# Altium footprint library Header.PcbLib: 45 footprints (part 1 of 3)
Each footprint in its own frame and in the unit in brackets; x right, y up, seen from the top. Pads: shape width x height; smd on the part's side, far side on the other; paste and mask are expansions set on the pad; w line width, h text height; cw(c..) or ccw(c..) is an arc to the next point about the centre after c.
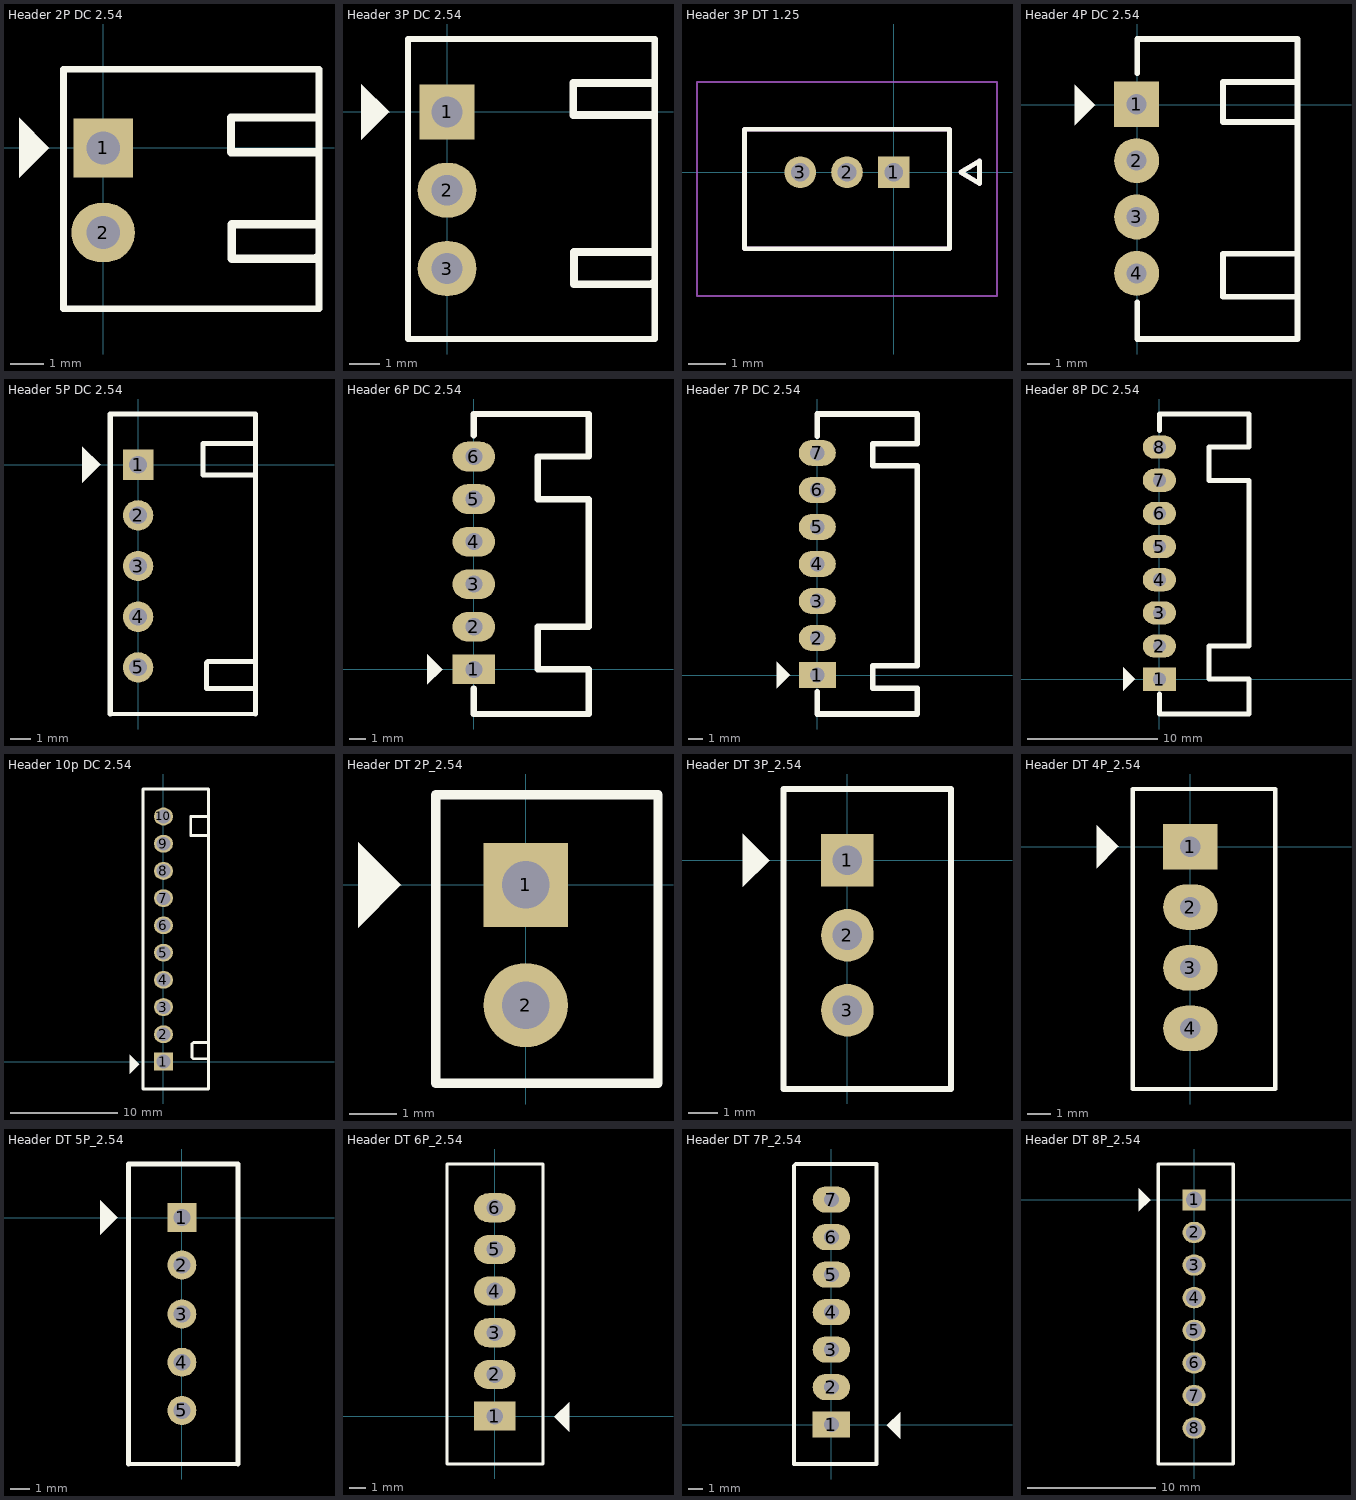
[diagram p0: the footprints below, top view; thin cyan lines are the x and y axes]

## Header 2P DC 2.54 [mil]
pads (2):
  rect 70x70 hole 39.37 unplated: 1(0,0)
  oval 75x70 hole 39.37 unplated: 2(0,-100)
Top Overlay:
  region: -99.5,35.5 -99.5,-35.5 -64.5,-0.5 -63.5,-0.5
  lines w7.87: -47,-190 255,-190 255,93 -47,93 -47,-190
  lines w10: 151,34 cw(c152,34) 152,35 ; 251,36 151,36 151,-5 253,-5 ; 253,-131 cw(c253,-130) 252,-130 cw(c251,-130) 251,-131 152,-131 152,-90 254,-90
3D body "header 2 cong.stp": height 236.7, standoff 0.48, extent -50,-189.96 250,89.96

## Header 3P DC 2.54 [mil]
pads (3):
  rect 70x70 hole 39.37 unplated: 1(0,0)
  oval 75x70 hole 39.37 unplated: 2(0,-100) 3(0,-200)
Top Overlay:
  region: -109.5,35.5 -109.5,-35.5 -74.5,-0.5 -73.5,-0.5
  lines w7.87: -50,-290 265,-290 265,93 -50,93 -50,-290
  lines w10: 161,35 cw(c162,35) 162,36 ; 261,37 161,37 161,-4 263,-4 ; 263,-220 cw(c263,-219) 262,-219 cw(c261,-219) 261,-220 162,-220 162,-179 264,-179

## Header 3P DT 1.25 [mm]
height 4.2
pads (3):
  rect 0.85x0.85 / inner round 0.85 / far side rect 0.85x0.85 hole 0.5 mask+0.076: 1(0,0)
  round 0.85 hole 0.5 mask+0.076: 2(-1.25,0) 3(-2.5,0)
Top Overlay:
  lines w0.127: -4,-2.05 1.5,-2.05 1.5,1.15 -4,1.15 -4,-2.05 ; 1.8,0 2.3,-0.3 2.3,0.3 1.8,0
Mechanical 13:
  lines w0.127: -4,-2.05 1.5,-2.05 1.5,1.15 -4,1.15 -4,-2.05 ; 1.8,0 2.3,-0.3 2.3,0.3 1.8,0
Mechanical 15:
  lines w0.05: -5.27,-3.32 2.77,-3.32 2.77,2.42 -5.27,2.42 -5.27,-3.32

## Header 4P DC 2.54 [mil]
pads (4):
  rect 78.74x78.74 hole 35: 1(-1,1)
  round 78.74 hole 35: 2(-1,-97.42) 3(-1,-195.85) 4(-1,-294.28)
Top Overlay:
  region: -109.5,35.5 -109.5,-35.5 -74.5,-0.5 -73.5,-0.5
  lines w10: 0,-345 0,-409 280,-409 280,115 0,115 0,55 ; 275,40 150,40 150,-30 280,-30 ; 280,-335 150,-335 150,-260 280,-260
3D body "Header X2.54 4P.stp": height 290.5, standoff 0.5, extent 5,-412.5 277.84,122.5

## Header 5P DC 2.54 [mil]
pads (5):
  rect 60x60 hole 35: 1(0,0)
  round 60 hole 35: 2(0,-100) 3(0,-200) 4(0,-300) 5(0,-400)
Top Overlay:
  region: -110,35.5 -110,-35.5 -75,-0.5 -74,-0.5
  lines w7.87: -55,-492 232,-492
  lines w10: -55,-492 -55,100 232,100 232,-492 ; 231,-388 138,-388 135,-391 135,-442 232,-442 ; 231,-20 128,-20 128,42 232,42

## Header 6P DC 2.54 [mil]
pads (6):
  rect 100x70 hole 40: 1(0,0)
  oval 100x70 hole 40: 2(0,100) 3(0,200) 4(0,300) 5(0,400) 6(0,500)
Top Overlay:
  region: -109.5,35.5 -109.5,-35.5 -74.5,-0.5 -73.5,-0.5
  lines w15: 0,-45.04 0,-105.04 270,-105.04 270,0 150,0 150,100 270,100 270,400 150,400 150,500 270,500 270,600 0,600 0,550
3D body "Header X2.54 6P.stp": height 226.88, standoff 0.5, extent -6.95,-110.25 278.05,604.76

## Header 7P DC 2.54 [mil]
pads (7):
  rect 100x70 hole 40: 1(0,0.04)
  oval 100x70 hole 40: 2(0,100.04) 3(0,200.04) 4(0,300.04) 5(0,400.04) 6(0,500.04) 7(0,600.04)
Top Overlay:
  region: -109.5,35.5 -109.5,-35.5 -74.5,-0.5 -73.5,-0.5
  lines w15: 0,-45 0,-105 270,-105 270,-35 150,-35 150,25 270,25 270,565 150,565 150,625 270,625 270,705 0,705 0,645
3D body "header 7.stp": height 236.72, standoff 0.5, extent -5,-93.7 270.59,693.7

## Header 8P DC 2.54 [mil]
pads (8):
  rect 100x70 hole 40: 1(0,0)
  oval 100x70 hole 40: 2(0,100) 3(0,200) 4(0,300) 5(0,400) 6(0,500) 7(0,600) 8(0,700)
Top Overlay:
  region: -109.5,35.5 -109.5,-35.5 -74.5,-0.5 -73.5,-0.5
  lines w15: 0,-45.04 0,-105.04 270,-105.04 270,0 150,0 150,100 270,100 270,600 150,600 150,700 270,700 270,800 0,800 0,750

## Header 10p DC 2.54 [mil]
pads (10):
  rect 70x65 hole 50: 1(0,0)
  oval 70x65 hole 50: 2(0,100) 3(0,200) 4(0,300) 5(0,400) 6(0,500) 7(0,600) 8(0,700) 9(0,800) 10(0,900)
Top Overlay:
  region: -124.5,25.5 -124.5,-45.5 -89.5,-10.5 -88.5,-10.5
  lines w10: 165,10 110,10 105,15 105,65 110,70 165,70 ; 165,830 100,830 100,900 165,900 ; -75,-101 -75,1001 165,1001 165,-101 -75,-101

## Header DT 2P_2.54 [mil]
pads (2):
  rect 70x70 hole 39.37 unplated: 1(0,0)
  round 70 hole 39.37 unplated: 2(0,-100)
Top Overlay:
  region: -139.5,35.5 -139.5,-35.5 -104.5,-0.5 -103.5,-0.5
  lines w7.87: -75,-165 110,-165 110,75 -75,75 -75,-165
3D body "Con 2.stp.step": height 236.82, standoff -133.26, extent -70,-160.14 107.16,72.14

## Header DT 3P_2.54 [mil]
pads (3):
  rect 70x70 hole 39.37 unplated: 1(0,0)
  round 70 hole 39.37 unplated: 2(0,-100) 3(0,-200)
Top Overlay:
  region: -139.5,35.5 -139.5,-35.5 -104.5,-0.5 -103.5,-0.5
  lines w7.87: -85,-305 -85,95 138.31,95 138.31,-305 -85,-305
3D body "SW3dPS-jst-b3b-xh-a.STEP": height 275.59, standoff -133.86, extent -81.38,-299.88 145,89.88

## Header DT 4P_2.54 [mil]
pads (4):
  rect 90x75 hole 34: 1(0,0)
  oval 90x75 hole 34: 2(0,-100) 3(0,-200) 4(0,-300)
Top Overlay:
  region: -154.5,35.5 -154.5,-35.5 -119.5,-0.5 -118.5,-0.5
  lines w7: -95,-400 -95,95 140,95 140,-400 0,-400 -95,-400
3D body "User Library-HEADER,JST,BxB-XH-A.STEP": height 275.59, standoff -133.86, extent -90,-398.19 136.38,90

## Header DT 5P_2.54 [mil]
pads (5):
  rect 60x60 hole 35: 1(0,0)
  round 60 hole 35: 2(0,-98.42) 3(0,-200) 4(0,-300) 5(0,-400)
Top Overlay:
  region: -169.5,35.5 -169.5,-35.5 -134.5,-0.5 -133.5,-0.5
  lines w7.87: -111,-511 116,-511
  lines w10: -111,-511 -111,111 116,111 116,-511
3D body "Header 5P Thang.stp": height 570, standoff -109, extent -106.5,-515 120,105

## Header DT 6P_2.54 [mil] "Header 6P X2.54 Duc Thang"
pads (6):
  rect 100x70 hole 40: 1(0,0)
  oval 100x70 hole 40: 2(0,100) 3(0,200) 4(0,300) 5(0,400) 6(0,500)
Top Overlay:
  region: 178,-38 178,33 143,-2 142,-2
  lines w7: -115,-115 115,-115 115,605 -115,605 -115,-115
3D body "31502.stp": height 549.5, standoff -129.5, extent -114.5,-115 112,605

## Header DT 7P_2.54 [mil]
pads (7):
  rect 100x70 hole 40: 1(0,0)
  oval 100x70 hole 40: 2(0,100) 3(0,200) 4(0,300) 5(0,400) 6(0,500) 7(0,600)
Top Overlay:
  region: 183,-38 183,33 148,-2 147,-2
  lines w10: -100,-105.04 120,-105.04 120,694.96 -95,694.96 -100,689.96 -100,-105.04

## Header DT 8P_2.54 [mil]
pads (8):
  rect 70x65 hole 50: 1(0,0)
  oval 70x65 hole 50: 2(0,-100) 3(0,-200) 4(0,-300) 5(0,-400) 6(0,-500) 7(0,-600) 8(0,-700)
Top Overlay:
  region: -169.5,35.5 -169.5,-35.5 -134.5,-0.5 -133.5,-0.5
  lines w10: -110,-810 -110,110 120,110 120,-810 -110,-810
3D body "Header 10 2.54 duc thang.stp": height 550, standoff -129, extent -110,-810 116.5,110